# Altium footprint library Connector_Samtec_HLE_SMD.PcbLib: 290 footprints (part 10 of 24)
Each footprint in its own frame and in the unit in brackets; x right, y up, seen from the top. Pads: shape width x height; smd on the part's side, far side on the other; paste and mask are expansions set on the pad; w line width, h text height; cw(c..) or ccw(c..) is an arc to the next point about the centre after c.
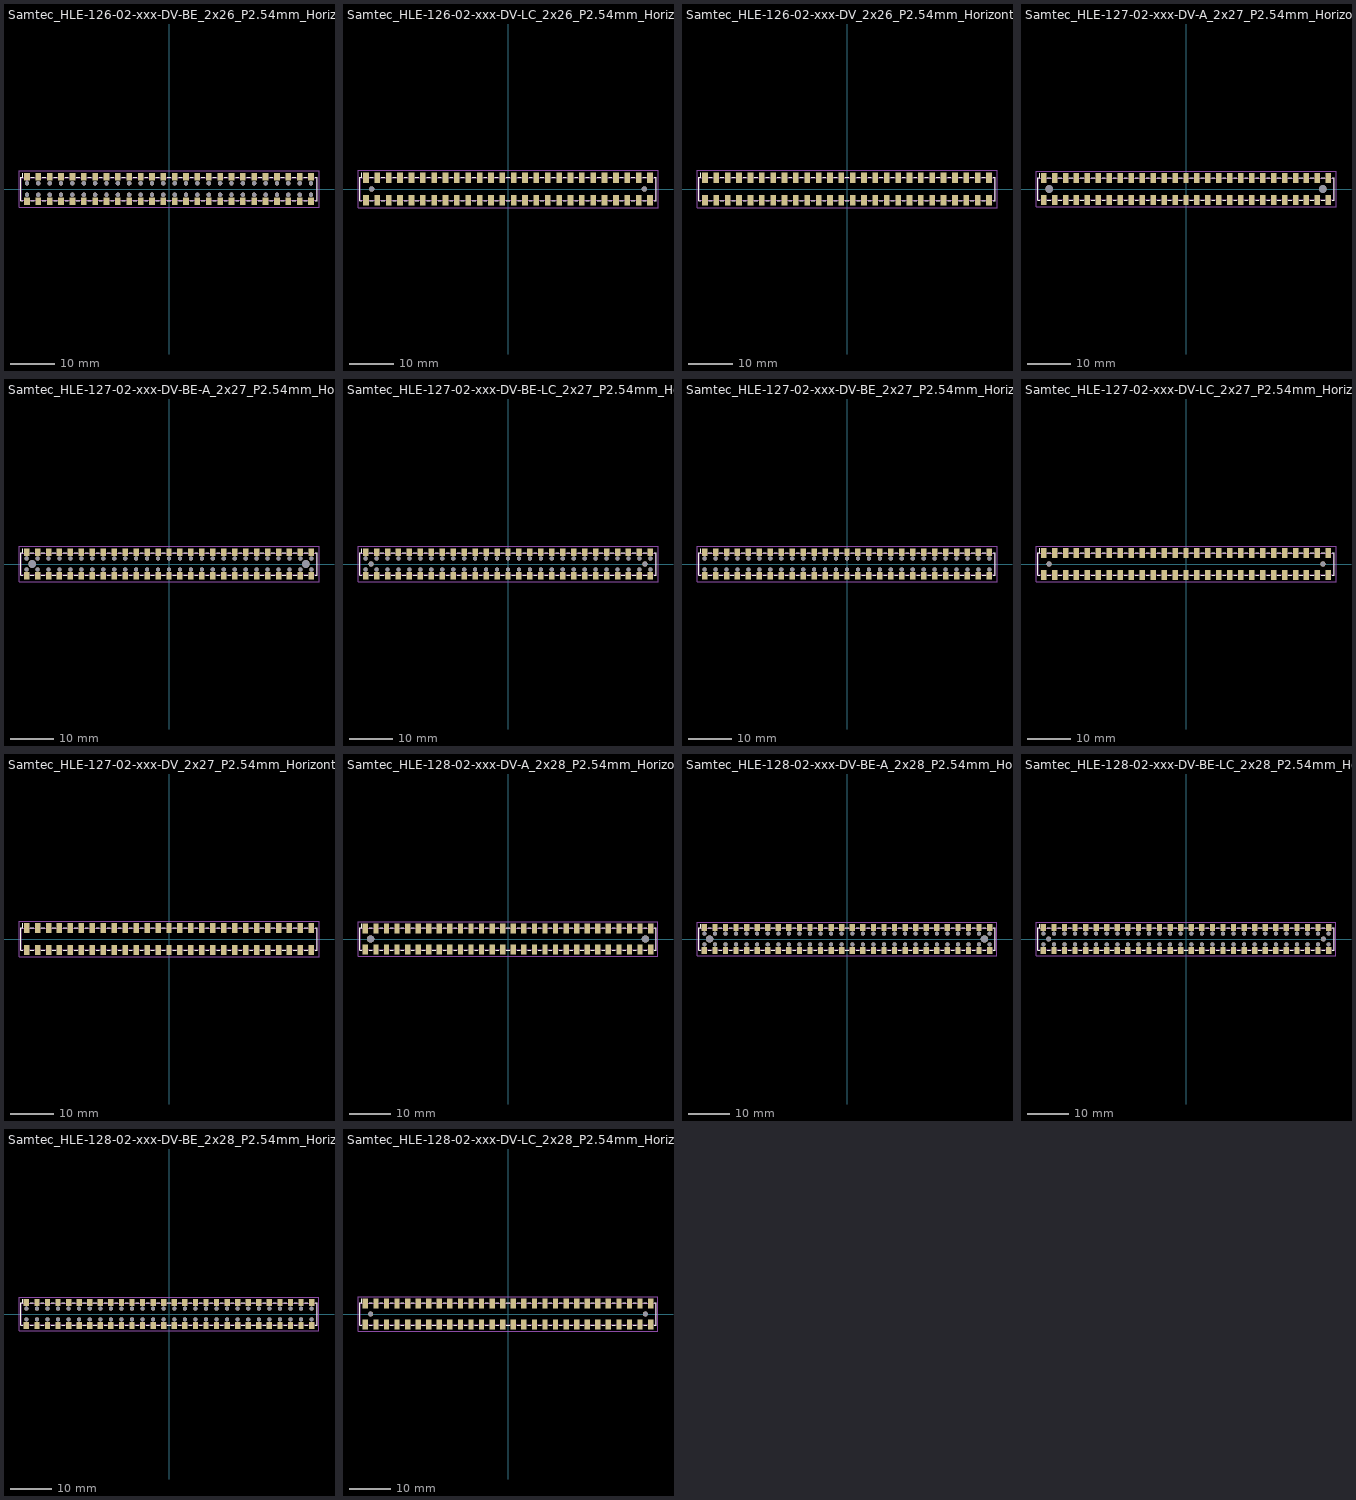
[diagram p9: the footprints below, top view; thin cyan lines are the x and y axes]

## Samtec_HLE-126-02-xxx-DV-BE_2x26_P2.54mm_Horizontal [mm]
pads (104):
  rect 1.27x1.68 smd: 1(-31.75,2.72) 2(-31.75,-2.72) 3(-29.21,2.72) 4(-29.21,-2.72) 5(-26.67,2.72) 6(-26.67,-2.72) 7(-24.13,2.72) 8(-24.13,-2.72) 9(-21.59,2.72) 10(-21.59,-2.72) 11(-19.05,2.72) 12(-19.05,-2.72) 13(-16.51,2.72) 14(-16.51,-2.72) 15(-13.97,2.72) 16(-13.97,-2.72) 17(-11.43,2.72) 18(-11.43,-2.72) 19(-8.89,2.72) 20(-8.89,-2.72) 21(-6.35,2.72) 22(-6.35,-2.72) 23(-3.81,2.72) 24(-3.81,-2.72) 25(-1.27,2.72) 26(-1.27,-2.72) 27(1.27,2.72) 28(1.27,-2.72) 29(3.81,2.72) 30(3.81,-2.72) 31(6.35,2.72) 32(6.35,-2.72) 33(8.89,2.72) 34(8.89,-2.72) 35(11.43,2.72) 36(11.43,-2.72) 37(13.97,2.72) 38(13.97,-2.72) 39(16.51,2.72) 40(16.51,-2.72) 41(19.05,2.72) 42(19.05,-2.72) 43(21.59,2.72) 44(21.59,-2.72) 45(24.13,2.72) 46(24.13,-2.72) 47(26.67,2.72) 48(26.67,-2.72) 49(29.21,2.72) 50(29.21,-2.72) 51(31.75,2.72) 52(31.75,-2.72)
  round 0.97 hole 0.97: Un1(-31.75,1.27) Un2(-31.75,-1.27) Un3(-29.21,1.27) Un4(-29.21,-1.27) Un5(-26.67,1.27) Un6(-26.67,-1.27) Un7(-24.13,1.27) Un8(-24.13,-1.27) Un9(-21.59,1.27) Un10(-21.59,-1.27) Un11(-19.05,1.27) Un12(-19.05,-1.27) Un13(-16.51,1.27) Un14(-16.51,-1.27) Un15(-13.97,1.27) Un16(-13.97,-1.27) Un17(-11.43,1.27) Un18(-11.43,-1.27) Un19(-8.89,1.27) Un20(-8.89,-1.27) Un21(-6.35,1.27) Un22(-6.35,-1.27) Un23(-3.81,1.27) Un24(-3.81,-1.27) Un25(-1.27,1.27) Un26(-1.27,-1.27) Un27(1.27,1.27) Un28(1.27,-1.27) Un29(3.81,1.27) Un30(3.81,-1.27) Un31(6.35,1.27) Un32(6.35,-1.27) Un33(8.89,1.27) Un34(8.89,-1.27) Un35(11.43,1.27) Un36(11.43,-1.27) Un37(13.97,1.27) Un38(13.97,-1.27) Un39(16.51,1.27) Un40(16.51,-1.27) Un41(19.05,1.27) Un42(19.05,-1.27) Un43(21.59,1.27) Un44(21.59,-1.27) Un45(24.13,1.27) Un46(24.13,-1.27) Un47(26.67,1.27) Un48(26.67,-1.27) Un49(29.21,1.27) Un50(29.21,-1.27) Un51(31.75,1.27) Un52(31.75,-1.27)
F.SilkS:
  lines w0.254: -32.645,-2.65 -33.13,-2.65 -33.13,2.65 -32.645,2.65 -32.645,3.56 ; -30.855,-2.65 -30.105,-2.65 ; -30.855,2.65 -30.105,2.65 ; -28.315,-2.65 -27.565,-2.65 ; -28.315,2.65 -27.565,2.65 ; -25.775,-2.65 -25.025,-2.65 ; -25.775,2.65 -25.025,2.65 ; -23.235,-2.65 -22.485,-2.65 ; -23.235,2.65 -22.485,2.65 ; -20.695,-2.65 -19.945,-2.65 ; -20.695,2.65 -19.945,2.65 ; -18.155,-2.65 -17.405,-2.65 ; -18.155,2.65 -17.405,2.65 ; -15.615,-2.65 -14.865,-2.65 ; -15.615,2.65 -14.865,2.65 ; -13.075,-2.65 -12.325,-2.65 ; -13.075,2.65 -12.325,2.65 ; -10.535,-2.65 -9.785,-2.65 ; -10.535,2.65 -9.785,2.65 ; -7.995,-2.65 -7.245,-2.65 ; -7.995,2.65 -7.245,2.65 ; -5.455,-2.65 -4.705,-2.65 ; -5.455,2.65 -4.705,2.65 ; -2.915,-2.65 -2.165,-2.65 ; -2.915,2.65 -2.165,2.65 ; -0.375,-2.65 0.375,-2.65 ; -0.375,2.65 0.375,2.65 ; 2.165,-2.65 2.915,-2.65 ; 2.165,2.65 2.915,2.65 ; 4.705,-2.65 5.455,-2.65 ; 4.705,2.65 5.455,2.65 ; 7.245,-2.65 7.995,-2.65 ; 7.245,2.65 7.995,2.65 ; 9.785,-2.65 10.535,-2.65 ; 9.785,2.65 10.535,2.65 ; 12.325,-2.65 13.075,-2.65 ; 12.325,2.65 13.075,2.65 ; 14.865,-2.65 15.615,-2.65 ; 14.865,2.65 15.615,2.65 ; 17.405,-2.65 18.155,-2.65 ; 17.405,2.65 18.155,2.65 ; 19.945,-2.65 20.695,-2.65 ; 19.945,2.65 20.695,2.65 ; 22.485,-2.65 23.235,-2.65 ; 22.485,2.65 23.235,2.65 ; 25.025,-2.65 25.775,-2.65 ; 25.025,2.65 25.775,2.65 ; 27.565,-2.65 28.315,-2.65 ; 27.565,2.65 28.315,2.65 ; 30.105,-2.65 30.855,-2.65 ; 30.105,2.65 30.855,2.65 ; 32.645,-2.65 33.13,-2.65 33.13,2.65 32.645,2.65
Top Assembly:
  lines w0.254: -32.25,2.54 -31.75,1.833 -31.25,2.54 ; -33.02,-2.54 33.02,-2.54 33.02,2.54 -33.02,2.54 -33.02,-2.54
  text "'.Designator'" at -4.047,-2.68 h1
Top Courtyard:
  lines w0.254: -33.53,-4.07 33.53,-4.07 33.53,4.07 -33.53,4.07 -33.53,-4.07
Top Designator:
  text ".Designator" at -7.618,-0.508 h1.52

## Samtec_HLE-126-02-xxx-DV-LC_2x26_P2.54mm_Horizontal [mm]
pads (54):
  rect 1.27x2.29 smd: 1(-31.75,2.525) 2(-31.75,-2.525) 3(-29.21,2.525) 4(-29.21,-2.525) 5(-26.67,2.525) 6(-26.67,-2.525) 7(-24.13,2.525) 8(-24.13,-2.525) 9(-21.59,2.525) 10(-21.59,-2.525) 11(-19.05,2.525) 12(-19.05,-2.525) 13(-16.51,2.525) 14(-16.51,-2.525) 15(-13.97,2.525) 16(-13.97,-2.525) 17(-11.43,2.525) 18(-11.43,-2.525) 19(-8.89,2.525) 20(-8.89,-2.525) 21(-6.35,2.525) 22(-6.35,-2.525) 23(-3.81,2.525) 24(-3.81,-2.525) 25(-1.27,2.525) 26(-1.27,-2.525) 27(1.27,2.525) 28(1.27,-2.525) 29(3.81,2.525) 30(3.81,-2.525) 31(6.35,2.525) 32(6.35,-2.525) 33(8.89,2.525) 34(8.89,-2.525) 35(11.43,2.525) 36(11.43,-2.525) 37(13.97,2.525) 38(13.97,-2.525) 39(16.51,2.525) 40(16.51,-2.525) 41(19.05,2.525) 42(19.05,-2.525) 43(21.59,2.525) 44(21.59,-2.525) 45(24.13,2.525) 46(24.13,-2.525) 47(26.67,2.525) 48(26.67,-2.525) 49(29.21,2.525) 50(29.21,-2.525) 51(31.75,2.525) 52(31.75,-2.525)
  round 1.19 hole 1.19: Un1(-30.48,0) Un2(30.48,0)
F.SilkS:
  lines w0.254: -32.645,-2.65 -33.13,-2.65 -33.13,2.65 -32.645,2.65 -32.645,3.67 ; -30.855,-2.65 -30.105,-2.65 ; -30.855,2.65 -30.105,2.65 ; -28.315,-2.65 -27.565,-2.65 ; -28.315,2.65 -27.565,2.65 ; -25.775,-2.65 -25.025,-2.65 ; -25.775,2.65 -25.025,2.65 ; -23.235,-2.65 -22.485,-2.65 ; -23.235,2.65 -22.485,2.65 ; -20.695,-2.65 -19.945,-2.65 ; -20.695,2.65 -19.945,2.65 ; -18.155,-2.65 -17.405,-2.65 ; -18.155,2.65 -17.405,2.65 ; -15.615,-2.65 -14.865,-2.65 ; -15.615,2.65 -14.865,2.65 ; -13.075,-2.65 -12.325,-2.65 ; -13.075,2.65 -12.325,2.65 ; -10.535,-2.65 -9.785,-2.65 ; -10.535,2.65 -9.785,2.65 ; -7.995,-2.65 -7.245,-2.65 ; -7.995,2.65 -7.245,2.65 ; -5.455,-2.65 -4.705,-2.65 ; -5.455,2.65 -4.705,2.65 ; -2.915,-2.65 -2.165,-2.65 ; -2.915,2.65 -2.165,2.65 ; -0.375,-2.65 0.375,-2.65 ; -0.375,2.65 0.375,2.65 ; 2.165,-2.65 2.915,-2.65 ; 2.165,2.65 2.915,2.65 ; 4.705,-2.65 5.455,-2.65 ; 4.705,2.65 5.455,2.65 ; 7.245,-2.65 7.995,-2.65 ; 7.245,2.65 7.995,2.65 ; 9.785,-2.65 10.535,-2.65 ; 9.785,2.65 10.535,2.65 ; 12.325,-2.65 13.075,-2.65 ; 12.325,2.65 13.075,2.65 ; 14.865,-2.65 15.615,-2.65 ; 14.865,2.65 15.615,2.65 ; 17.405,-2.65 18.155,-2.65 ; 17.405,2.65 18.155,2.65 ; 19.945,-2.65 20.695,-2.65 ; 19.945,2.65 20.695,2.65 ; 22.485,-2.65 23.235,-2.65 ; 22.485,2.65 23.235,2.65 ; 25.025,-2.65 25.775,-2.65 ; 25.025,2.65 25.775,2.65 ; 27.565,-2.65 28.315,-2.65 ; 27.565,2.65 28.315,2.65 ; 30.105,-2.65 30.855,-2.65 ; 30.105,2.65 30.855,2.65 ; 32.645,-2.65 33.13,-2.65 33.13,2.65 32.645,2.65
Top Assembly:
  lines w0.254: -32.25,2.54 -31.75,1.833 -31.25,2.54 ; -33.02,-2.54 33.02,-2.54 33.02,2.54 -33.02,2.54 -33.02,-2.54
  text "'.Designator'" at -4.047,-2.68 h1
Top Courtyard:
  lines w0.254: -33.53,-4.17 33.53,-4.17 33.53,4.17 -33.53,4.17 -33.53,-4.17
Top Designator:
  text ".Designator" at -7.618,-0.508 h1.52

## Samtec_HLE-126-02-xxx-DV_2x26_P2.54mm_Horizontal [mm]
pads (52):
  rect 1.27x2.29 smd: 1(-31.75,2.525) 2(-31.75,-2.525) 3(-29.21,2.525) 4(-29.21,-2.525) 5(-26.67,2.525) 6(-26.67,-2.525) 7(-24.13,2.525) 8(-24.13,-2.525) 9(-21.59,2.525) 10(-21.59,-2.525) 11(-19.05,2.525) 12(-19.05,-2.525) 13(-16.51,2.525) 14(-16.51,-2.525) 15(-13.97,2.525) 16(-13.97,-2.525) 17(-11.43,2.525) 18(-11.43,-2.525) 19(-8.89,2.525) 20(-8.89,-2.525) 21(-6.35,2.525) 22(-6.35,-2.525) 23(-3.81,2.525) 24(-3.81,-2.525) 25(-1.27,2.525) 26(-1.27,-2.525) 27(1.27,2.525) 28(1.27,-2.525) 29(3.81,2.525) 30(3.81,-2.525) 31(6.35,2.525) 32(6.35,-2.525) 33(8.89,2.525) 34(8.89,-2.525) 35(11.43,2.525) 36(11.43,-2.525) 37(13.97,2.525) 38(13.97,-2.525) 39(16.51,2.525) 40(16.51,-2.525) 41(19.05,2.525) 42(19.05,-2.525) 43(21.59,2.525) 44(21.59,-2.525) 45(24.13,2.525) 46(24.13,-2.525) 47(26.67,2.525) 48(26.67,-2.525) 49(29.21,2.525) 50(29.21,-2.525) 51(31.75,2.525) 52(31.75,-2.525)
F.SilkS:
  lines w0.254: -32.645,-2.65 -33.13,-2.65 -33.13,2.65 -32.645,2.65 -32.645,3.67 ; -30.855,-2.65 -30.105,-2.65 ; -30.855,2.65 -30.105,2.65 ; -28.315,-2.65 -27.565,-2.65 ; -28.315,2.65 -27.565,2.65 ; -25.775,-2.65 -25.025,-2.65 ; -25.775,2.65 -25.025,2.65 ; -23.235,-2.65 -22.485,-2.65 ; -23.235,2.65 -22.485,2.65 ; -20.695,-2.65 -19.945,-2.65 ; -20.695,2.65 -19.945,2.65 ; -18.155,-2.65 -17.405,-2.65 ; -18.155,2.65 -17.405,2.65 ; -15.615,-2.65 -14.865,-2.65 ; -15.615,2.65 -14.865,2.65 ; -13.075,-2.65 -12.325,-2.65 ; -13.075,2.65 -12.325,2.65 ; -10.535,-2.65 -9.785,-2.65 ; -10.535,2.65 -9.785,2.65 ; -7.995,-2.65 -7.245,-2.65 ; -7.995,2.65 -7.245,2.65 ; -5.455,-2.65 -4.705,-2.65 ; -5.455,2.65 -4.705,2.65 ; -2.915,-2.65 -2.165,-2.65 ; -2.915,2.65 -2.165,2.65 ; -0.375,-2.65 0.375,-2.65 ; -0.375,2.65 0.375,2.65 ; 2.165,-2.65 2.915,-2.65 ; 2.165,2.65 2.915,2.65 ; 4.705,-2.65 5.455,-2.65 ; 4.705,2.65 5.455,2.65 ; 7.245,-2.65 7.995,-2.65 ; 7.245,2.65 7.995,2.65 ; 9.785,-2.65 10.535,-2.65 ; 9.785,2.65 10.535,2.65 ; 12.325,-2.65 13.075,-2.65 ; 12.325,2.65 13.075,2.65 ; 14.865,-2.65 15.615,-2.65 ; 14.865,2.65 15.615,2.65 ; 17.405,-2.65 18.155,-2.65 ; 17.405,2.65 18.155,2.65 ; 19.945,-2.65 20.695,-2.65 ; 19.945,2.65 20.695,2.65 ; 22.485,-2.65 23.235,-2.65 ; 22.485,2.65 23.235,2.65 ; 25.025,-2.65 25.775,-2.65 ; 25.025,2.65 25.775,2.65 ; 27.565,-2.65 28.315,-2.65 ; 27.565,2.65 28.315,2.65 ; 30.105,-2.65 30.855,-2.65 ; 30.105,2.65 30.855,2.65 ; 32.645,-2.65 33.13,-2.65 33.13,2.65 32.645,2.65
Top Assembly:
  lines w0.254: -32.25,2.54 -31.75,1.833 -31.25,2.54 ; -33.02,-2.54 33.02,-2.54 33.02,2.54 -33.02,2.54 -33.02,-2.54
  text "'.Designator'" at -4.047,-2.68 h1
Top Courtyard:
  lines w0.254: -33.53,-4.17 33.53,-4.17 33.53,4.17 -33.53,4.17 -33.53,-4.17
Top Designator:
  text ".Designator" at -7.618,-0.508 h1.52

## Samtec_HLE-127-02-xxx-DV-A_2x27_P2.54mm_Horizontal [mm]
pads (56):
  rect 1.27x2.29 smd: 1(-33.02,2.525) 2(-33.02,-2.525) 3(-30.48,2.525) 4(-30.48,-2.525) 5(-27.94,2.525) 6(-27.94,-2.525) 7(-25.4,2.525) 8(-25.4,-2.525) 9(-22.86,2.525) 10(-22.86,-2.525) 11(-20.32,2.525) 12(-20.32,-2.525) 13(-17.78,2.525) 14(-17.78,-2.525) 15(-15.24,2.525) 16(-15.24,-2.525) 17(-12.7,2.525) 18(-12.7,-2.525) 19(-10.16,2.525) 20(-10.16,-2.525) 21(-7.62,2.525) 22(-7.62,-2.525) 23(-5.08,2.525) 24(-5.08,-2.525) 25(-2.54,2.525) 26(-2.54,-2.525) 27(0,2.525) 28(0,-2.525) 29(2.54,2.525) 30(2.54,-2.525) 31(5.08,2.525) 32(5.08,-2.525) 33(7.62,2.525) 34(7.62,-2.525) 35(10.16,2.525) 36(10.16,-2.525) 37(12.7,2.525) 38(12.7,-2.525) 39(15.24,2.525) 40(15.24,-2.525) 41(17.78,2.525) 42(17.78,-2.525) 43(20.32,2.525) 44(20.32,-2.525) 45(22.86,2.525) 46(22.86,-2.525) 47(25.4,2.525) 48(25.4,-2.525) 49(27.94,2.525) 50(27.94,-2.525) 51(30.48,2.525) 52(30.48,-2.525) 53(33.02,2.525) 54(33.02,-2.525)
  round 1.78 hole 1.78: Un1(-31.75,0) Un2(31.75,0)
F.SilkS:
  lines w0.254: -33.915,-2.65 -34.4,-2.65 -34.4,2.65 -33.915,2.65 -33.915,3.67 ; -32.125,-2.65 -31.375,-2.65 ; -32.125,2.65 -31.375,2.65 ; -29.585,-2.65 -28.835,-2.65 ; -29.585,2.65 -28.835,2.65 ; -27.045,-2.65 -26.295,-2.65 ; -27.045,2.65 -26.295,2.65 ; -24.505,-2.65 -23.755,-2.65 ; -24.505,2.65 -23.755,2.65 ; -21.965,-2.65 -21.215,-2.65 ; -21.965,2.65 -21.215,2.65 ; -19.425,-2.65 -18.675,-2.65 ; -19.425,2.65 -18.675,2.65 ; -16.885,-2.65 -16.135,-2.65 ; -16.885,2.65 -16.135,2.65 ; -14.345,-2.65 -13.595,-2.65 ; -14.345,2.65 -13.595,2.65 ; -11.805,-2.65 -11.055,-2.65 ; -11.805,2.65 -11.055,2.65 ; -9.265,-2.65 -8.515,-2.65 ; -9.265,2.65 -8.515,2.65 ; -6.725,-2.65 -5.975,-2.65 ; -6.725,2.65 -5.975,2.65 ; -4.185,-2.65 -3.435,-2.65 ; -4.185,2.65 -3.435,2.65 ; -1.645,-2.65 -0.895,-2.65 ; -1.645,2.65 -0.895,2.65 ; 0.895,-2.65 1.645,-2.65 ; 0.895,2.65 1.645,2.65 ; 3.435,-2.65 4.185,-2.65 ; 3.435,2.65 4.185,2.65 ; 5.975,-2.65 6.725,-2.65 ; 5.975,2.65 6.725,2.65 ; 8.515,-2.65 9.265,-2.65 ; 8.515,2.65 9.265,2.65 ; 11.055,-2.65 11.805,-2.65 ; 11.055,2.65 11.805,2.65 ; 13.595,-2.65 14.345,-2.65 ; 13.595,2.65 14.345,2.65 ; 16.135,-2.65 16.885,-2.65 ; 16.135,2.65 16.885,2.65 ; 18.675,-2.65 19.425,-2.65 ; 18.675,2.65 19.425,2.65 ; 21.215,-2.65 21.965,-2.65 ; 21.215,2.65 21.965,2.65 ; 23.755,-2.65 24.505,-2.65 ; 23.755,2.65 24.505,2.65 ; 26.295,-2.65 27.045,-2.65 ; 26.295,2.65 27.045,2.65 ; 28.835,-2.65 29.585,-2.65 ; 28.835,2.65 29.585,2.65 ; 31.375,-2.65 32.125,-2.65 ; 31.375,2.65 32.125,2.65 ; 33.915,-2.65 34.4,-2.65 34.4,2.65 33.915,2.65
Top Assembly:
  lines w0.254: -33.52,2.54 -33.02,1.833 -32.52,2.54 ; -34.29,-2.54 34.29,-2.54 34.29,2.54 -34.29,2.54 -34.29,-2.54
  text "'.Designator'" at -4.047,-2.68 h1
Top Courtyard:
  lines w0.254: -34.79,-4.17 34.79,-4.17 34.79,4.17 -34.79,4.17 -34.79,-4.17
Top Designator:
  text ".Designator" at -7.618,-0.508 h1.52

## Samtec_HLE-127-02-xxx-DV-BE-A_2x27_P2.54mm_Horizontal [mm]
pads (110):
  rect 1.27x1.68 smd: 1(-33.02,2.72) 2(-33.02,-2.72) 3(-30.48,2.72) 4(-30.48,-2.72) 5(-27.94,2.72) 6(-27.94,-2.72) 7(-25.4,2.72) 8(-25.4,-2.72) 9(-22.86,2.72) 10(-22.86,-2.72) 11(-20.32,2.72) 12(-20.32,-2.72) 13(-17.78,2.72) 14(-17.78,-2.72) 15(-15.24,2.72) 16(-15.24,-2.72) 17(-12.7,2.72) 18(-12.7,-2.72) 19(-10.16,2.72) 20(-10.16,-2.72) 21(-7.62,2.72) 22(-7.62,-2.72) 23(-5.08,2.72) 24(-5.08,-2.72) 25(-2.54,2.72) 26(-2.54,-2.72) 27(0,2.72) 28(0,-2.72) 29(2.54,2.72) 30(2.54,-2.72) 31(5.08,2.72) 32(5.08,-2.72) 33(7.62,2.72) 34(7.62,-2.72) 35(10.16,2.72) 36(10.16,-2.72) 37(12.7,2.72) 38(12.7,-2.72) 39(15.24,2.72) 40(15.24,-2.72) 41(17.78,2.72) 42(17.78,-2.72) 43(20.32,2.72) 44(20.32,-2.72) 45(22.86,2.72) 46(22.86,-2.72) 47(25.4,2.72) 48(25.4,-2.72) 49(27.94,2.72) 50(27.94,-2.72) 51(30.48,2.72) 52(30.48,-2.72) 53(33.02,2.72) 54(33.02,-2.72)
  round 0.97 hole 0.97: Un1(-33.02,1.27) Un2(-33.02,-1.27) Un4(-30.48,1.27) Un5(-30.48,-1.27) Un6(-27.94,1.27) Un7(-27.94,-1.27) Un8(-25.4,1.27) Un9(-25.4,-1.27) Un10(-22.86,1.27) Un11(-22.86,-1.27) Un12(-20.32,1.27) Un13(-20.32,-1.27) Un14(-17.78,1.27) Un15(-17.78,-1.27) Un16(-15.24,1.27) Un17(-15.24,-1.27) Un18(-12.7,1.27) Un19(-12.7,-1.27) Un20(-10.16,1.27) Un21(-10.16,-1.27) Un22(-7.62,1.27) Un23(-7.62,-1.27) Un24(-5.08,1.27) Un25(-5.08,-1.27) Un26(-2.54,1.27) Un27(-2.54,-1.27) Un28(0,1.27) Un29(0,-1.27) Un30(2.54,1.27) Un31(2.54,-1.27) Un32(5.08,1.27) Un33(5.08,-1.27) Un34(7.62,1.27) Un35(7.62,-1.27) Un36(10.16,1.27) Un37(10.16,-1.27) Un38(12.7,1.27) Un39(12.7,-1.27) Un40(15.24,1.27) Un41(15.24,-1.27) Un42(17.78,1.27) Un43(17.78,-1.27) Un44(20.32,1.27) Un45(20.32,-1.27) Un46(22.86,1.27) Un47(22.86,-1.27) Un48(25.4,1.27) Un49(25.4,-1.27) Un50(27.94,1.27) Un51(27.94,-1.27) Un52(30.48,1.27) Un53(30.48,-1.27) Un55(33.02,1.27) Un56(33.02,-1.27)
  round 1.78 hole 1.78: Un3(-31.75,0) Un54(31.75,0)
F.SilkS:
  lines w0.254: -33.915,-2.65 -34.4,-2.65 -34.4,2.65 -33.915,2.65 -33.915,3.56 ; -32.125,-2.65 -31.375,-2.65 ; -32.125,2.65 -31.375,2.65 ; -29.585,-2.65 -28.835,-2.65 ; -29.585,2.65 -28.835,2.65 ; -27.045,-2.65 -26.295,-2.65 ; -27.045,2.65 -26.295,2.65 ; -24.505,-2.65 -23.755,-2.65 ; -24.505,2.65 -23.755,2.65 ; -21.965,-2.65 -21.215,-2.65 ; -21.965,2.65 -21.215,2.65 ; -19.425,-2.65 -18.675,-2.65 ; -19.425,2.65 -18.675,2.65 ; -16.885,-2.65 -16.135,-2.65 ; -16.885,2.65 -16.135,2.65 ; -14.345,-2.65 -13.595,-2.65 ; -14.345,2.65 -13.595,2.65 ; -11.805,-2.65 -11.055,-2.65 ; -11.805,2.65 -11.055,2.65 ; -9.265,-2.65 -8.515,-2.65 ; -9.265,2.65 -8.515,2.65 ; -6.725,-2.65 -5.975,-2.65 ; -6.725,2.65 -5.975,2.65 ; -4.185,-2.65 -3.435,-2.65 ; -4.185,2.65 -3.435,2.65 ; -1.645,-2.65 -0.895,-2.65 ; -1.645,2.65 -0.895,2.65 ; 0.895,-2.65 1.645,-2.65 ; 0.895,2.65 1.645,2.65 ; 3.435,-2.65 4.185,-2.65 ; 3.435,2.65 4.185,2.65 ; 5.975,-2.65 6.725,-2.65 ; 5.975,2.65 6.725,2.65 ; 8.515,-2.65 9.265,-2.65 ; 8.515,2.65 9.265,2.65 ; 11.055,-2.65 11.805,-2.65 ; 11.055,2.65 11.805,2.65 ; 13.595,-2.65 14.345,-2.65 ; 13.595,2.65 14.345,2.65 ; 16.135,-2.65 16.885,-2.65 ; 16.135,2.65 16.885,2.65 ; 18.675,-2.65 19.425,-2.65 ; 18.675,2.65 19.425,2.65 ; 21.215,-2.65 21.965,-2.65 ; 21.215,2.65 21.965,2.65 ; 23.755,-2.65 24.505,-2.65 ; 23.755,2.65 24.505,2.65 ; 26.295,-2.65 27.045,-2.65 ; 26.295,2.65 27.045,2.65 ; 28.835,-2.65 29.585,-2.65 ; 28.835,2.65 29.585,2.65 ; 31.375,-2.65 32.125,-2.65 ; 31.375,2.65 32.125,2.65 ; 33.915,-2.65 34.4,-2.65 34.4,2.65 33.915,2.65
Top Assembly:
  lines w0.254: -33.52,2.54 -33.02,1.833 -32.52,2.54 ; -34.29,-2.54 34.29,-2.54 34.29,2.54 -34.29,2.54 -34.29,-2.54
  text "'.Designator'" at -4.047,-2.68 h1
Top Courtyard:
  lines w0.254: -34.79,-4.07 34.79,-4.07 34.79,4.07 -34.79,4.07 -34.79,-4.07
Top Designator:
  text ".Designator" at -7.618,-0.508 h1.52

## Samtec_HLE-127-02-xxx-DV-BE-LC_2x27_P2.54mm_Horizontal [mm]
pads (110):
  rect 1.27x1.68 smd: 1(-33.02,2.72) 2(-33.02,-2.72) 3(-30.48,2.72) 4(-30.48,-2.72) 5(-27.94,2.72) 6(-27.94,-2.72) 7(-25.4,2.72) 8(-25.4,-2.72) 9(-22.86,2.72) 10(-22.86,-2.72) 11(-20.32,2.72) 12(-20.32,-2.72) 13(-17.78,2.72) 14(-17.78,-2.72) 15(-15.24,2.72) 16(-15.24,-2.72) 17(-12.7,2.72) 18(-12.7,-2.72) 19(-10.16,2.72) 20(-10.16,-2.72) 21(-7.62,2.72) 22(-7.62,-2.72) 23(-5.08,2.72) 24(-5.08,-2.72) 25(-2.54,2.72) 26(-2.54,-2.72) 27(0,2.72) 28(0,-2.72) 29(2.54,2.72) 30(2.54,-2.72) 31(5.08,2.72) 32(5.08,-2.72) 33(7.62,2.72) 34(7.62,-2.72) 35(10.16,2.72) 36(10.16,-2.72) 37(12.7,2.72) 38(12.7,-2.72) 39(15.24,2.72) 40(15.24,-2.72) 41(17.78,2.72) 42(17.78,-2.72) 43(20.32,2.72) 44(20.32,-2.72) 45(22.86,2.72) 46(22.86,-2.72) 47(25.4,2.72) 48(25.4,-2.72) 49(27.94,2.72) 50(27.94,-2.72) 51(30.48,2.72) 52(30.48,-2.72) 53(33.02,2.72) 54(33.02,-2.72)
  round 0.97 hole 0.97: Un1(-33.02,1.27) Un2(-33.02,-1.27) Un4(-30.48,1.27) Un5(-30.48,-1.27) Un6(-27.94,1.27) Un7(-27.94,-1.27) Un8(-25.4,1.27) Un9(-25.4,-1.27) Un10(-22.86,1.27) Un11(-22.86,-1.27) Un12(-20.32,1.27) Un13(-20.32,-1.27) Un14(-17.78,1.27) Un15(-17.78,-1.27) Un16(-15.24,1.27) Un17(-15.24,-1.27) Un18(-12.7,1.27) Un19(-12.7,-1.27) Un20(-10.16,1.27) Un21(-10.16,-1.27) Un22(-7.62,1.27) Un23(-7.62,-1.27) Un24(-5.08,1.27) Un25(-5.08,-1.27) Un26(-2.54,1.27) Un27(-2.54,-1.27) Un28(0,1.27) Un29(0,-1.27) Un30(2.54,1.27) Un31(2.54,-1.27) Un32(5.08,1.27) Un33(5.08,-1.27) Un34(7.62,1.27) Un35(7.62,-1.27) Un36(10.16,1.27) Un37(10.16,-1.27) Un38(12.7,1.27) Un39(12.7,-1.27) Un40(15.24,1.27) Un41(15.24,-1.27) Un42(17.78,1.27) Un43(17.78,-1.27) Un44(20.32,1.27) Un45(20.32,-1.27) Un46(22.86,1.27) Un47(22.86,-1.27) Un48(25.4,1.27) Un49(25.4,-1.27) Un50(27.94,1.27) Un51(27.94,-1.27) Un52(30.48,1.27) Un53(30.48,-1.27) Un55(33.02,1.27) Un56(33.02,-1.27)
  round 1.19 hole 1.19: Un3(-31.75,0) Un54(31.75,0)
F.SilkS:
  lines w0.254: -33.915,-2.65 -34.4,-2.65 -34.4,2.65 -33.915,2.65 -33.915,3.56 ; -32.125,-2.65 -31.375,-2.65 ; -32.125,2.65 -31.375,2.65 ; -29.585,-2.65 -28.835,-2.65 ; -29.585,2.65 -28.835,2.65 ; -27.045,-2.65 -26.295,-2.65 ; -27.045,2.65 -26.295,2.65 ; -24.505,-2.65 -23.755,-2.65 ; -24.505,2.65 -23.755,2.65 ; -21.965,-2.65 -21.215,-2.65 ; -21.965,2.65 -21.215,2.65 ; -19.425,-2.65 -18.675,-2.65 ; -19.425,2.65 -18.675,2.65 ; -16.885,-2.65 -16.135,-2.65 ; -16.885,2.65 -16.135,2.65 ; -14.345,-2.65 -13.595,-2.65 ; -14.345,2.65 -13.595,2.65 ; -11.805,-2.65 -11.055,-2.65 ; -11.805,2.65 -11.055,2.65 ; -9.265,-2.65 -8.515,-2.65 ; -9.265,2.65 -8.515,2.65 ; -6.725,-2.65 -5.975,-2.65 ; -6.725,2.65 -5.975,2.65 ; -4.185,-2.65 -3.435,-2.65 ; -4.185,2.65 -3.435,2.65 ; -1.645,-2.65 -0.895,-2.65 ; -1.645,2.65 -0.895,2.65 ; 0.895,-2.65 1.645,-2.65 ; 0.895,2.65 1.645,2.65 ; 3.435,-2.65 4.185,-2.65 ; 3.435,2.65 4.185,2.65 ; 5.975,-2.65 6.725,-2.65 ; 5.975,2.65 6.725,2.65 ; 8.515,-2.65 9.265,-2.65 ; 8.515,2.65 9.265,2.65 ; 11.055,-2.65 11.805,-2.65 ; 11.055,2.65 11.805,2.65 ; 13.595,-2.65 14.345,-2.65 ; 13.595,2.65 14.345,2.65 ; 16.135,-2.65 16.885,-2.65 ; 16.135,2.65 16.885,2.65 ; 18.675,-2.65 19.425,-2.65 ; 18.675,2.65 19.425,2.65 ; 21.215,-2.65 21.965,-2.65 ; 21.215,2.65 21.965,2.65 ; 23.755,-2.65 24.505,-2.65 ; 23.755,2.65 24.505,2.65 ; 26.295,-2.65 27.045,-2.65 ; 26.295,2.65 27.045,2.65 ; 28.835,-2.65 29.585,-2.65 ; 28.835,2.65 29.585,2.65 ; 31.375,-2.65 32.125,-2.65 ; 31.375,2.65 32.125,2.65 ; 33.915,-2.65 34.4,-2.65 34.4,2.65 33.915,2.65
Top Assembly:
  lines w0.254: -33.52,2.54 -33.02,1.833 -32.52,2.54 ; -34.29,-2.54 34.29,-2.54 34.29,2.54 -34.29,2.54 -34.29,-2.54
  text "'.Designator'" at -4.047,-2.68 h1
Top Courtyard:
  lines w0.254: -34.79,-4.07 34.79,-4.07 34.79,4.07 -34.79,4.07 -34.79,-4.07
Top Designator:
  text ".Designator" at -7.618,-0.508 h1.52

## Samtec_HLE-127-02-xxx-DV-BE_2x27_P2.54mm_Horizontal [mm]
pads (108):
  rect 1.27x1.68 smd: 1(-33.02,2.72) 2(-33.02,-2.72) 3(-30.48,2.72) 4(-30.48,-2.72) 5(-27.94,2.72) 6(-27.94,-2.72) 7(-25.4,2.72) 8(-25.4,-2.72) 9(-22.86,2.72) 10(-22.86,-2.72) 11(-20.32,2.72) 12(-20.32,-2.72) 13(-17.78,2.72) 14(-17.78,-2.72) 15(-15.24,2.72) 16(-15.24,-2.72) 17(-12.7,2.72) 18(-12.7,-2.72) 19(-10.16,2.72) 20(-10.16,-2.72) 21(-7.62,2.72) 22(-7.62,-2.72) 23(-5.08,2.72) 24(-5.08,-2.72) 25(-2.54,2.72) 26(-2.54,-2.72) 27(0,2.72) 28(0,-2.72) 29(2.54,2.72) 30(2.54,-2.72) 31(5.08,2.72) 32(5.08,-2.72) 33(7.62,2.72) 34(7.62,-2.72) 35(10.16,2.72) 36(10.16,-2.72) 37(12.7,2.72) 38(12.7,-2.72) 39(15.24,2.72) 40(15.24,-2.72) 41(17.78,2.72) 42(17.78,-2.72) 43(20.32,2.72) 44(20.32,-2.72) 45(22.86,2.72) 46(22.86,-2.72) 47(25.4,2.72) 48(25.4,-2.72) 49(27.94,2.72) 50(27.94,-2.72) 51(30.48,2.72) 52(30.48,-2.72) 53(33.02,2.72) 54(33.02,-2.72)
  round 0.97 hole 0.97: Un1(-33.02,1.27) Un2(-33.02,-1.27) Un3(-30.48,1.27) Un4(-30.48,-1.27) Un5(-27.94,1.27) Un6(-27.94,-1.27) Un7(-25.4,1.27) Un8(-25.4,-1.27) Un9(-22.86,1.27) Un10(-22.86,-1.27) Un11(-20.32,1.27) Un12(-20.32,-1.27) Un13(-17.78,1.27) Un14(-17.78,-1.27) Un15(-15.24,1.27) Un16(-15.24,-1.27) Un17(-12.7,1.27) Un18(-12.7,-1.27) Un19(-10.16,1.27) Un20(-10.16,-1.27) Un21(-7.62,1.27) Un22(-7.62,-1.27) Un23(-5.08,1.27) Un24(-5.08,-1.27) Un25(-2.54,1.27) Un26(-2.54,-1.27) Un27(0,1.27) Un28(0,-1.27) Un29(2.54,1.27) Un30(2.54,-1.27) Un31(5.08,1.27) Un32(5.08,-1.27) Un33(7.62,1.27) Un34(7.62,-1.27) Un35(10.16,1.27) Un36(10.16,-1.27) Un37(12.7,1.27) Un38(12.7,-1.27) Un39(15.24,1.27) Un40(15.24,-1.27) Un41(17.78,1.27) Un42(17.78,-1.27) Un43(20.32,1.27) Un44(20.32,-1.27) Un45(22.86,1.27) Un46(22.86,-1.27) Un47(25.4,1.27) Un48(25.4,-1.27) Un49(27.94,1.27) Un50(27.94,-1.27) Un51(30.48,1.27) Un52(30.48,-1.27) Un53(33.02,1.27) Un54(33.02,-1.27)
F.SilkS:
  lines w0.254: -33.915,-2.65 -34.4,-2.65 -34.4,2.65 -33.915,2.65 -33.915,3.56 ; -32.125,-2.65 -31.375,-2.65 ; -32.125,2.65 -31.375,2.65 ; -29.585,-2.65 -28.835,-2.65 ; -29.585,2.65 -28.835,2.65 ; -27.045,-2.65 -26.295,-2.65 ; -27.045,2.65 -26.295,2.65 ; -24.505,-2.65 -23.755,-2.65 ; -24.505,2.65 -23.755,2.65 ; -21.965,-2.65 -21.215,-2.65 ; -21.965,2.65 -21.215,2.65 ; -19.425,-2.65 -18.675,-2.65 ; -19.425,2.65 -18.675,2.65 ; -16.885,-2.65 -16.135,-2.65 ; -16.885,2.65 -16.135,2.65 ; -14.345,-2.65 -13.595,-2.65 ; -14.345,2.65 -13.595,2.65 ; -11.805,-2.65 -11.055,-2.65 ; -11.805,2.65 -11.055,2.65 ; -9.265,-2.65 -8.515,-2.65 ; -9.265,2.65 -8.515,2.65 ; -6.725,-2.65 -5.975,-2.65 ; -6.725,2.65 -5.975,2.65 ; -4.185,-2.65 -3.435,-2.65 ; -4.185,2.65 -3.435,2.65 ; -1.645,-2.65 -0.895,-2.65 ; -1.645,2.65 -0.895,2.65 ; 0.895,-2.65 1.645,-2.65 ; 0.895,2.65 1.645,2.65 ; 3.435,-2.65 4.185,-2.65 ; 3.435,2.65 4.185,2.65 ; 5.975,-2.65 6.725,-2.65 ; 5.975,2.65 6.725,2.65 ; 8.515,-2.65 9.265,-2.65 ; 8.515,2.65 9.265,2.65 ; 11.055,-2.65 11.805,-2.65 ; 11.055,2.65 11.805,2.65 ; 13.595,-2.65 14.345,-2.65 ; 13.595,2.65 14.345,2.65 ; 16.135,-2.65 16.885,-2.65 ; 16.135,2.65 16.885,2.65 ; 18.675,-2.65 19.425,-2.65 ; 18.675,2.65 19.425,2.65 ; 21.215,-2.65 21.965,-2.65 ; 21.215,2.65 21.965,2.65 ; 23.755,-2.65 24.505,-2.65 ; 23.755,2.65 24.505,2.65 ; 26.295,-2.65 27.045,-2.65 ; 26.295,2.65 27.045,2.65 ; 28.835,-2.65 29.585,-2.65 ; 28.835,2.65 29.585,2.65 ; 31.375,-2.65 32.125,-2.65 ; 31.375,2.65 32.125,2.65 ; 33.915,-2.65 34.4,-2.65 34.4,2.65 33.915,2.65
Top Assembly:
  lines w0.254: -33.52,2.54 -33.02,1.833 -32.52,2.54 ; -34.29,-2.54 34.29,-2.54 34.29,2.54 -34.29,2.54 -34.29,-2.54
  text "'.Designator'" at -4.047,-2.68 h1
Top Courtyard:
  lines w0.254: -34.79,-4.07 34.79,-4.07 34.79,4.07 -34.79,4.07 -34.79,-4.07
Top Designator:
  text ".Designator" at -7.618,-0.508 h1.52

## Samtec_HLE-127-02-xxx-DV-LC_2x27_P2.54mm_Horizontal [mm]
pads (56):
  rect 1.27x2.29 smd: 1(-33.02,2.525) 2(-33.02,-2.525) 3(-30.48,2.525) 4(-30.48,-2.525) 5(-27.94,2.525) 6(-27.94,-2.525) 7(-25.4,2.525) 8(-25.4,-2.525) 9(-22.86,2.525) 10(-22.86,-2.525) 11(-20.32,2.525) 12(-20.32,-2.525) 13(-17.78,2.525) 14(-17.78,-2.525) 15(-15.24,2.525) 16(-15.24,-2.525) 17(-12.7,2.525) 18(-12.7,-2.525) 19(-10.16,2.525) 20(-10.16,-2.525) 21(-7.62,2.525) 22(-7.62,-2.525) 23(-5.08,2.525) 24(-5.08,-2.525) 25(-2.54,2.525) 26(-2.54,-2.525) 27(0,2.525) 28(0,-2.525) 29(2.54,2.525) 30(2.54,-2.525) 31(5.08,2.525) 32(5.08,-2.525) 33(7.62,2.525) 34(7.62,-2.525) 35(10.16,2.525) 36(10.16,-2.525) 37(12.7,2.525) 38(12.7,-2.525) 39(15.24,2.525) 40(15.24,-2.525) 41(17.78,2.525) 42(17.78,-2.525) 43(20.32,2.525) 44(20.32,-2.525) 45(22.86,2.525) 46(22.86,-2.525) 47(25.4,2.525) 48(25.4,-2.525) 49(27.94,2.525) 50(27.94,-2.525) 51(30.48,2.525) 52(30.48,-2.525) 53(33.02,2.525) 54(33.02,-2.525)
  round 1.19 hole 1.19: Un1(-31.75,0) Un2(31.75,0)
F.SilkS:
  lines w0.254: -33.915,-2.65 -34.4,-2.65 -34.4,2.65 -33.915,2.65 -33.915,3.67 ; -32.125,-2.65 -31.375,-2.65 ; -32.125,2.65 -31.375,2.65 ; -29.585,-2.65 -28.835,-2.65 ; -29.585,2.65 -28.835,2.65 ; -27.045,-2.65 -26.295,-2.65 ; -27.045,2.65 -26.295,2.65 ; -24.505,-2.65 -23.755,-2.65 ; -24.505,2.65 -23.755,2.65 ; -21.965,-2.65 -21.215,-2.65 ; -21.965,2.65 -21.215,2.65 ; -19.425,-2.65 -18.675,-2.65 ; -19.425,2.65 -18.675,2.65 ; -16.885,-2.65 -16.135,-2.65 ; -16.885,2.65 -16.135,2.65 ; -14.345,-2.65 -13.595,-2.65 ; -14.345,2.65 -13.595,2.65 ; -11.805,-2.65 -11.055,-2.65 ; -11.805,2.65 -11.055,2.65 ; -9.265,-2.65 -8.515,-2.65 ; -9.265,2.65 -8.515,2.65 ; -6.725,-2.65 -5.975,-2.65 ; -6.725,2.65 -5.975,2.65 ; -4.185,-2.65 -3.435,-2.65 ; -4.185,2.65 -3.435,2.65 ; -1.645,-2.65 -0.895,-2.65 ; -1.645,2.65 -0.895,2.65 ; 0.895,-2.65 1.645,-2.65 ; 0.895,2.65 1.645,2.65 ; 3.435,-2.65 4.185,-2.65 ; 3.435,2.65 4.185,2.65 ; 5.975,-2.65 6.725,-2.65 ; 5.975,2.65 6.725,2.65 ; 8.515,-2.65 9.265,-2.65 ; 8.515,2.65 9.265,2.65 ; 11.055,-2.65 11.805,-2.65 ; 11.055,2.65 11.805,2.65 ; 13.595,-2.65 14.345,-2.65 ; 13.595,2.65 14.345,2.65 ; 16.135,-2.65 16.885,-2.65 ; 16.135,2.65 16.885,2.65 ; 18.675,-2.65 19.425,-2.65 ; 18.675,2.65 19.425,2.65 ; 21.215,-2.65 21.965,-2.65 ; 21.215,2.65 21.965,2.65 ; 23.755,-2.65 24.505,-2.65 ; 23.755,2.65 24.505,2.65 ; 26.295,-2.65 27.045,-2.65 ; 26.295,2.65 27.045,2.65 ; 28.835,-2.65 29.585,-2.65 ; 28.835,2.65 29.585,2.65 ; 31.375,-2.65 32.125,-2.65 ; 31.375,2.65 32.125,2.65 ; 33.915,-2.65 34.4,-2.65 34.4,2.65 33.915,2.65
Top Assembly:
  lines w0.254: -33.52,2.54 -33.02,1.833 -32.52,2.54 ; -34.29,-2.54 34.29,-2.54 34.29,2.54 -34.29,2.54 -34.29,-2.54
  text "'.Designator'" at -4.047,-2.68 h1
Top Courtyard:
  lines w0.254: -34.79,-4.17 34.79,-4.17 34.79,4.17 -34.79,4.17 -34.79,-4.17
Top Designator:
  text ".Designator" at -7.618,-0.508 h1.52

## Samtec_HLE-127-02-xxx-DV_2x27_P2.54mm_Horizontal [mm]
pads (54):
  rect 1.27x2.29 smd: 1(-33.02,2.525) 2(-33.02,-2.525) 3(-30.48,2.525) 4(-30.48,-2.525) 5(-27.94,2.525) 6(-27.94,-2.525) 7(-25.4,2.525) 8(-25.4,-2.525) 9(-22.86,2.525) 10(-22.86,-2.525) 11(-20.32,2.525) 12(-20.32,-2.525) 13(-17.78,2.525) 14(-17.78,-2.525) 15(-15.24,2.525) 16(-15.24,-2.525) 17(-12.7,2.525) 18(-12.7,-2.525) 19(-10.16,2.525) 20(-10.16,-2.525) 21(-7.62,2.525) 22(-7.62,-2.525) 23(-5.08,2.525) 24(-5.08,-2.525) 25(-2.54,2.525) 26(-2.54,-2.525) 27(0,2.525) 28(0,-2.525) 29(2.54,2.525) 30(2.54,-2.525) 31(5.08,2.525) 32(5.08,-2.525) 33(7.62,2.525) 34(7.62,-2.525) 35(10.16,2.525) 36(10.16,-2.525) 37(12.7,2.525) 38(12.7,-2.525) 39(15.24,2.525) 40(15.24,-2.525) 41(17.78,2.525) 42(17.78,-2.525) 43(20.32,2.525) 44(20.32,-2.525) 45(22.86,2.525) 46(22.86,-2.525) 47(25.4,2.525) 48(25.4,-2.525) 49(27.94,2.525) 50(27.94,-2.525) 51(30.48,2.525) 52(30.48,-2.525) 53(33.02,2.525) 54(33.02,-2.525)
F.SilkS:
  lines w0.254: -33.915,-2.65 -34.4,-2.65 -34.4,2.65 -33.915,2.65 -33.915,3.67 ; -32.125,-2.65 -31.375,-2.65 ; -32.125,2.65 -31.375,2.65 ; -29.585,-2.65 -28.835,-2.65 ; -29.585,2.65 -28.835,2.65 ; -27.045,-2.65 -26.295,-2.65 ; -27.045,2.65 -26.295,2.65 ; -24.505,-2.65 -23.755,-2.65 ; -24.505,2.65 -23.755,2.65 ; -21.965,-2.65 -21.215,-2.65 ; -21.965,2.65 -21.215,2.65 ; -19.425,-2.65 -18.675,-2.65 ; -19.425,2.65 -18.675,2.65 ; -16.885,-2.65 -16.135,-2.65 ; -16.885,2.65 -16.135,2.65 ; -14.345,-2.65 -13.595,-2.65 ; -14.345,2.65 -13.595,2.65 ; -11.805,-2.65 -11.055,-2.65 ; -11.805,2.65 -11.055,2.65 ; -9.265,-2.65 -8.515,-2.65 ; -9.265,2.65 -8.515,2.65 ; -6.725,-2.65 -5.975,-2.65 ; -6.725,2.65 -5.975,2.65 ; -4.185,-2.65 -3.435,-2.65 ; -4.185,2.65 -3.435,2.65 ; -1.645,-2.65 -0.895,-2.65 ; -1.645,2.65 -0.895,2.65 ; 0.895,-2.65 1.645,-2.65 ; 0.895,2.65 1.645,2.65 ; 3.435,-2.65 4.185,-2.65 ; 3.435,2.65 4.185,2.65 ; 5.975,-2.65 6.725,-2.65 ; 5.975,2.65 6.725,2.65 ; 8.515,-2.65 9.265,-2.65 ; 8.515,2.65 9.265,2.65 ; 11.055,-2.65 11.805,-2.65 ; 11.055,2.65 11.805,2.65 ; 13.595,-2.65 14.345,-2.65 ; 13.595,2.65 14.345,2.65 ; 16.135,-2.65 16.885,-2.65 ; 16.135,2.65 16.885,2.65 ; 18.675,-2.65 19.425,-2.65 ; 18.675,2.65 19.425,2.65 ; 21.215,-2.65 21.965,-2.65 ; 21.215,2.65 21.965,2.65 ; 23.755,-2.65 24.505,-2.65 ; 23.755,2.65 24.505,2.65 ; 26.295,-2.65 27.045,-2.65 ; 26.295,2.65 27.045,2.65 ; 28.835,-2.65 29.585,-2.65 ; 28.835,2.65 29.585,2.65 ; 31.375,-2.65 32.125,-2.65 ; 31.375,2.65 32.125,2.65 ; 33.915,-2.65 34.4,-2.65 34.4,2.65 33.915,2.65
Top Assembly:
  lines w0.254: -33.52,2.54 -33.02,1.833 -32.52,2.54 ; -34.29,-2.54 34.29,-2.54 34.29,2.54 -34.29,2.54 -34.29,-2.54
  text "'.Designator'" at -4.047,-2.68 h1
Top Courtyard:
  lines w0.254: -34.79,-4.17 34.79,-4.17 34.79,4.17 -34.79,4.17 -34.79,-4.17
Top Designator:
  text ".Designator" at -7.618,-0.508 h1.52

## Samtec_HLE-128-02-xxx-DV-A_2x28_P2.54mm_Horizontal [mm]
pads (58):
  rect 1.27x2.29 smd: 1(-34.29,2.525) 2(-34.29,-2.525) 3(-31.75,2.525) 4(-31.75,-2.525) 5(-29.21,2.525) 6(-29.21,-2.525) 7(-26.67,2.525) 8(-26.67,-2.525) 9(-24.13,2.525) 10(-24.13,-2.525) 11(-21.59,2.525) 12(-21.59,-2.525) 13(-19.05,2.525) 14(-19.05,-2.525) 15(-16.51,2.525) 16(-16.51,-2.525) 17(-13.97,2.525) 18(-13.97,-2.525) 19(-11.43,2.525) 20(-11.43,-2.525) 21(-8.89,2.525) 22(-8.89,-2.525) 23(-6.35,2.525) 24(-6.35,-2.525) 25(-3.81,2.525) 26(-3.81,-2.525) 27(-1.27,2.525) 28(-1.27,-2.525) 29(1.27,2.525) 30(1.27,-2.525) 31(3.81,2.525) 32(3.81,-2.525) 33(6.35,2.525) 34(6.35,-2.525) 35(8.89,2.525) 36(8.89,-2.525) 37(11.43,2.525) 38(11.43,-2.525) 39(13.97,2.525) 40(13.97,-2.525) 41(16.51,2.525) 42(16.51,-2.525) 43(19.05,2.525) 44(19.05,-2.525) 45(21.59,2.525) 46(21.59,-2.525) 47(24.13,2.525) 48(24.13,-2.525) 49(26.67,2.525) 50(26.67,-2.525) 51(29.21,2.525) 52(29.21,-2.525) 53(31.75,2.525) 54(31.75,-2.525) 55(34.29,2.525) 56(34.29,-2.525)
  round 1.78 hole 1.78: Un1(-33.02,0) Un2(33.02,0)
F.SilkS:
  lines w0.254: -35.185,-2.65 -35.67,-2.65 -35.67,2.65 -35.185,2.65 -35.185,3.67 ; -33.395,-2.65 -32.645,-2.65 ; -33.395,2.65 -32.645,2.65 ; -30.855,-2.65 -30.105,-2.65 ; -30.855,2.65 -30.105,2.65 ; -28.315,-2.65 -27.565,-2.65 ; -28.315,2.65 -27.565,2.65 ; -25.775,-2.65 -25.025,-2.65 ; -25.775,2.65 -25.025,2.65 ; -23.235,-2.65 -22.485,-2.65 ; -23.235,2.65 -22.485,2.65 ; -20.695,-2.65 -19.945,-2.65 ; -20.695,2.65 -19.945,2.65 ; -18.155,-2.65 -17.405,-2.65 ; -18.155,2.65 -17.405,2.65 ; -15.615,-2.65 -14.865,-2.65 ; -15.615,2.65 -14.865,2.65 ; -13.075,-2.65 -12.325,-2.65 ; -13.075,2.65 -12.325,2.65 ; -10.535,-2.65 -9.785,-2.65 ; -10.535,2.65 -9.785,2.65 ; -7.995,-2.65 -7.245,-2.65 ; -7.995,2.65 -7.245,2.65 ; -5.455,-2.65 -4.705,-2.65 ; -5.455,2.65 -4.705,2.65 ; -2.915,-2.65 -2.165,-2.65 ; -2.915,2.65 -2.165,2.65 ; -0.375,-2.65 0.375,-2.65 ; -0.375,2.65 0.375,2.65 ; 2.165,-2.65 2.915,-2.65 ; 2.165,2.65 2.915,2.65 ; 4.705,-2.65 5.455,-2.65 ; 4.705,2.65 5.455,2.65 ; 7.245,-2.65 7.995,-2.65 ; 7.245,2.65 7.995,2.65 ; 9.785,-2.65 10.535,-2.65 ; 9.785,2.65 10.535,2.65 ; 12.325,-2.65 13.075,-2.65 ; 12.325,2.65 13.075,2.65 ; 14.865,-2.65 15.615,-2.65 ; 14.865,2.65 15.615,2.65 ; 17.405,-2.65 18.155,-2.65 ; 17.405,2.65 18.155,2.65 ; 19.945,-2.65 20.695,-2.65 ; 19.945,2.65 20.695,2.65 ; 22.485,-2.65 23.235,-2.65 ; 22.485,2.65 23.235,2.65 ; 25.025,-2.65 25.775,-2.65 ; 25.025,2.65 25.775,2.65 ; 27.565,-2.65 28.315,-2.65 ; 27.565,2.65 28.315,2.65 ; 30.105,-2.65 30.855,-2.65 ; 30.105,2.65 30.855,2.65 ; 32.645,-2.65 33.395,-2.65 ; 32.645,2.65 33.395,2.65 ; 35.185,-2.65 35.67,-2.65 35.67,2.65 35.185,2.65
Top Assembly:
  lines w0.254: -34.79,2.54 -34.29,1.833 -33.79,2.54 ; -35.56,-2.54 35.56,-2.54 35.56,2.54 -35.56,2.54 -35.56,-2.54
  text "'.Designator'" at -4.047,-2.68 h1
Top Courtyard:
  lines w0.254: -36.06,-4.17 36.06,-4.17 36.06,4.17 -36.06,4.17 -36.06,-4.17
Top Designator:
  text ".Designator" at -7.618,-0.508 h1.52

## Samtec_HLE-128-02-xxx-DV-BE-A_2x28_P2.54mm_Horizontal [mm]
pads (114):
  rect 1.27x1.68 smd: 1(-34.29,2.72) 2(-34.29,-2.72) 3(-31.75,2.72) 4(-31.75,-2.72) 5(-29.21,2.72) 6(-29.21,-2.72) 7(-26.67,2.72) 8(-26.67,-2.72) 9(-24.13,2.72) 10(-24.13,-2.72) 11(-21.59,2.72) 12(-21.59,-2.72) 13(-19.05,2.72) 14(-19.05,-2.72) 15(-16.51,2.72) 16(-16.51,-2.72) 17(-13.97,2.72) 18(-13.97,-2.72) 19(-11.43,2.72) 20(-11.43,-2.72) 21(-8.89,2.72) 22(-8.89,-2.72) 23(-6.35,2.72) 24(-6.35,-2.72) 25(-3.81,2.72) 26(-3.81,-2.72) 27(-1.27,2.72) 28(-1.27,-2.72) 29(1.27,2.72) 30(1.27,-2.72) 31(3.81,2.72) 32(3.81,-2.72) 33(6.35,2.72) 34(6.35,-2.72) 35(8.89,2.72) 36(8.89,-2.72) 37(11.43,2.72) 38(11.43,-2.72) 39(13.97,2.72) 40(13.97,-2.72) 41(16.51,2.72) 42(16.51,-2.72) 43(19.05,2.72) 44(19.05,-2.72) 45(21.59,2.72) 46(21.59,-2.72) 47(24.13,2.72) 48(24.13,-2.72) 49(26.67,2.72) 50(26.67,-2.72) 51(29.21,2.72) 52(29.21,-2.72) 53(31.75,2.72) 54(31.75,-2.72) 55(34.29,2.72) 56(34.29,-2.72)
  round 0.97 hole 0.97: Un1(-34.29,1.27) Un2(-34.29,-1.27) Un4(-31.75,1.27) Un5(-31.75,-1.27) Un6(-29.21,1.27) Un7(-29.21,-1.27) Un8(-26.67,1.27) Un9(-26.67,-1.27) Un10(-24.13,1.27) Un11(-24.13,-1.27) Un12(-21.59,1.27) Un13(-21.59,-1.27) Un14(-19.05,1.27) Un15(-19.05,-1.27) Un16(-16.51,1.27) Un17(-16.51,-1.27) Un18(-13.97,1.27) Un19(-13.97,-1.27) Un20(-11.43,1.27) Un21(-11.43,-1.27) Un22(-8.89,1.27) Un23(-8.89,-1.27) Un24(-6.35,1.27) Un25(-6.35,-1.27) Un26(-3.81,1.27) Un27(-3.81,-1.27) Un28(-1.27,1.27) Un29(-1.27,-1.27) Un30(1.27,1.27) Un31(1.27,-1.27) Un32(3.81,1.27) Un33(3.81,-1.27) Un34(6.35,1.27) Un35(6.35,-1.27) Un36(8.89,1.27) Un37(8.89,-1.27) Un38(11.43,1.27) Un39(11.43,-1.27) Un40(13.97,1.27) Un41(13.97,-1.27) Un42(16.51,1.27) Un43(16.51,-1.27) Un44(19.05,1.27) Un45(19.05,-1.27) Un46(21.59,1.27) Un47(21.59,-1.27) Un48(24.13,1.27) Un49(24.13,-1.27) Un50(26.67,1.27) Un51(26.67,-1.27) Un52(29.21,1.27) Un53(29.21,-1.27) Un54(31.75,1.27) Un55(31.75,-1.27) Un57(34.29,1.27) Un58(34.29,-1.27)
  round 1.78 hole 1.78: Un3(-33.02,0) Un56(33.02,0)
F.SilkS:
  lines w0.254: -35.185,-2.65 -35.67,-2.65 -35.67,2.65 -35.185,2.65 -35.185,3.56 ; -33.395,-2.65 -32.645,-2.65 ; -33.395,2.65 -32.645,2.65 ; -30.855,-2.65 -30.105,-2.65 ; -30.855,2.65 -30.105,2.65 ; -28.315,-2.65 -27.565,-2.65 ; -28.315,2.65 -27.565,2.65 ; -25.775,-2.65 -25.025,-2.65 ; -25.775,2.65 -25.025,2.65 ; -23.235,-2.65 -22.485,-2.65 ; -23.235,2.65 -22.485,2.65 ; -20.695,-2.65 -19.945,-2.65 ; -20.695,2.65 -19.945,2.65 ; -18.155,-2.65 -17.405,-2.65 ; -18.155,2.65 -17.405,2.65 ; -15.615,-2.65 -14.865,-2.65 ; -15.615,2.65 -14.865,2.65 ; -13.075,-2.65 -12.325,-2.65 ; -13.075,2.65 -12.325,2.65 ; -10.535,-2.65 -9.785,-2.65 ; -10.535,2.65 -9.785,2.65 ; -7.995,-2.65 -7.245,-2.65 ; -7.995,2.65 -7.245,2.65 ; -5.455,-2.65 -4.705,-2.65 ; -5.455,2.65 -4.705,2.65 ; -2.915,-2.65 -2.165,-2.65 ; -2.915,2.65 -2.165,2.65 ; -0.375,-2.65 0.375,-2.65 ; -0.375,2.65 0.375,2.65 ; 2.165,-2.65 2.915,-2.65 ; 2.165,2.65 2.915,2.65 ; 4.705,-2.65 5.455,-2.65 ; 4.705,2.65 5.455,2.65 ; 7.245,-2.65 7.995,-2.65 ; 7.245,2.65 7.995,2.65 ; 9.785,-2.65 10.535,-2.65 ; 9.785,2.65 10.535,2.65 ; 12.325,-2.65 13.075,-2.65 ; 12.325,2.65 13.075,2.65 ; 14.865,-2.65 15.615,-2.65 ; 14.865,2.65 15.615,2.65 ; 17.405,-2.65 18.155,-2.65 ; 17.405,2.65 18.155,2.65 ; 19.945,-2.65 20.695,-2.65 ; 19.945,2.65 20.695,2.65 ; 22.485,-2.65 23.235,-2.65 ; 22.485,2.65 23.235,2.65 ; 25.025,-2.65 25.775,-2.65 ; 25.025,2.65 25.775,2.65 ; 27.565,-2.65 28.315,-2.65 ; 27.565,2.65 28.315,2.65 ; 30.105,-2.65 30.855,-2.65 ; 30.105,2.65 30.855,2.65 ; 32.645,-2.65 33.395,-2.65 ; 32.645,2.65 33.395,2.65 ; 35.185,-2.65 35.67,-2.65 35.67,2.65 35.185,2.65
Top Assembly:
  lines w0.254: -34.79,2.54 -34.29,1.833 -33.79,2.54 ; -35.56,-2.54 35.56,-2.54 35.56,2.54 -35.56,2.54 -35.56,-2.54
  text "'.Designator'" at -4.047,-2.68 h1
Top Courtyard:
  lines w0.254: -36.06,-4.07 36.06,-4.07 36.06,4.07 -36.06,4.07 -36.06,-4.07
Top Designator:
  text ".Designator" at -7.618,-0.508 h1.52

## Samtec_HLE-128-02-xxx-DV-BE-LC_2x28_P2.54mm_Horizontal [mm]
pads (114):
  rect 1.27x1.68 smd: 1(-34.29,2.72) 2(-34.29,-2.72) 3(-31.75,2.72) 4(-31.75,-2.72) 5(-29.21,2.72) 6(-29.21,-2.72) 7(-26.67,2.72) 8(-26.67,-2.72) 9(-24.13,2.72) 10(-24.13,-2.72) 11(-21.59,2.72) 12(-21.59,-2.72) 13(-19.05,2.72) 14(-19.05,-2.72) 15(-16.51,2.72) 16(-16.51,-2.72) 17(-13.97,2.72) 18(-13.97,-2.72) 19(-11.43,2.72) 20(-11.43,-2.72) 21(-8.89,2.72) 22(-8.89,-2.72) 23(-6.35,2.72) 24(-6.35,-2.72) 25(-3.81,2.72) 26(-3.81,-2.72) 27(-1.27,2.72) 28(-1.27,-2.72) 29(1.27,2.72) 30(1.27,-2.72) 31(3.81,2.72) 32(3.81,-2.72) 33(6.35,2.72) 34(6.35,-2.72) 35(8.89,2.72) 36(8.89,-2.72) 37(11.43,2.72) 38(11.43,-2.72) 39(13.97,2.72) 40(13.97,-2.72) 41(16.51,2.72) 42(16.51,-2.72) 43(19.05,2.72) 44(19.05,-2.72) 45(21.59,2.72) 46(21.59,-2.72) 47(24.13,2.72) 48(24.13,-2.72) 49(26.67,2.72) 50(26.67,-2.72) 51(29.21,2.72) 52(29.21,-2.72) 53(31.75,2.72) 54(31.75,-2.72) 55(34.29,2.72) 56(34.29,-2.72)
  round 0.97 hole 0.97: Un1(-34.29,1.27) Un2(-34.29,-1.27) Un4(-31.75,1.27) Un5(-31.75,-1.27) Un6(-29.21,1.27) Un7(-29.21,-1.27) Un8(-26.67,1.27) Un9(-26.67,-1.27) Un10(-24.13,1.27) Un11(-24.13,-1.27) Un12(-21.59,1.27) Un13(-21.59,-1.27) Un14(-19.05,1.27) Un15(-19.05,-1.27) Un16(-16.51,1.27) Un17(-16.51,-1.27) Un18(-13.97,1.27) Un19(-13.97,-1.27) Un20(-11.43,1.27) Un21(-11.43,-1.27) Un22(-8.89,1.27) Un23(-8.89,-1.27) Un24(-6.35,1.27) Un25(-6.35,-1.27) Un26(-3.81,1.27) Un27(-3.81,-1.27) Un28(-1.27,1.27) Un29(-1.27,-1.27) Un30(1.27,1.27) Un31(1.27,-1.27) Un32(3.81,1.27) Un33(3.81,-1.27) Un34(6.35,1.27) Un35(6.35,-1.27) Un36(8.89,1.27) Un37(8.89,-1.27) Un38(11.43,1.27) Un39(11.43,-1.27) Un40(13.97,1.27) Un41(13.97,-1.27) Un42(16.51,1.27) Un43(16.51,-1.27) Un44(19.05,1.27) Un45(19.05,-1.27) Un46(21.59,1.27) Un47(21.59,-1.27) Un48(24.13,1.27) Un49(24.13,-1.27) Un50(26.67,1.27) Un51(26.67,-1.27) Un52(29.21,1.27) Un53(29.21,-1.27) Un54(31.75,1.27) Un55(31.75,-1.27) Un57(34.29,1.27) Un58(34.29,-1.27)
  round 1.19 hole 1.19: Un3(-33.02,0) Un56(33.02,0)
F.SilkS:
  lines w0.254: -35.185,-2.65 -35.67,-2.65 -35.67,2.65 -35.185,2.65 -35.185,3.56 ; -33.395,-2.65 -32.645,-2.65 ; -33.395,2.65 -32.645,2.65 ; -30.855,-2.65 -30.105,-2.65 ; -30.855,2.65 -30.105,2.65 ; -28.315,-2.65 -27.565,-2.65 ; -28.315,2.65 -27.565,2.65 ; -25.775,-2.65 -25.025,-2.65 ; -25.775,2.65 -25.025,2.65 ; -23.235,-2.65 -22.485,-2.65 ; -23.235,2.65 -22.485,2.65 ; -20.695,-2.65 -19.945,-2.65 ; -20.695,2.65 -19.945,2.65 ; -18.155,-2.65 -17.405,-2.65 ; -18.155,2.65 -17.405,2.65 ; -15.615,-2.65 -14.865,-2.65 ; -15.615,2.65 -14.865,2.65 ; -13.075,-2.65 -12.325,-2.65 ; -13.075,2.65 -12.325,2.65 ; -10.535,-2.65 -9.785,-2.65 ; -10.535,2.65 -9.785,2.65 ; -7.995,-2.65 -7.245,-2.65 ; -7.995,2.65 -7.245,2.65 ; -5.455,-2.65 -4.705,-2.65 ; -5.455,2.65 -4.705,2.65 ; -2.915,-2.65 -2.165,-2.65 ; -2.915,2.65 -2.165,2.65 ; -0.375,-2.65 0.375,-2.65 ; -0.375,2.65 0.375,2.65 ; 2.165,-2.65 2.915,-2.65 ; 2.165,2.65 2.915,2.65 ; 4.705,-2.65 5.455,-2.65 ; 4.705,2.65 5.455,2.65 ; 7.245,-2.65 7.995,-2.65 ; 7.245,2.65 7.995,2.65 ; 9.785,-2.65 10.535,-2.65 ; 9.785,2.65 10.535,2.65 ; 12.325,-2.65 13.075,-2.65 ; 12.325,2.65 13.075,2.65 ; 14.865,-2.65 15.615,-2.65 ; 14.865,2.65 15.615,2.65 ; 17.405,-2.65 18.155,-2.65 ; 17.405,2.65 18.155,2.65 ; 19.945,-2.65 20.695,-2.65 ; 19.945,2.65 20.695,2.65 ; 22.485,-2.65 23.235,-2.65 ; 22.485,2.65 23.235,2.65 ; 25.025,-2.65 25.775,-2.65 ; 25.025,2.65 25.775,2.65 ; 27.565,-2.65 28.315,-2.65 ; 27.565,2.65 28.315,2.65 ; 30.105,-2.65 30.855,-2.65 ; 30.105,2.65 30.855,2.65 ; 32.645,-2.65 33.395,-2.65 ; 32.645,2.65 33.395,2.65 ; 35.185,-2.65 35.67,-2.65 35.67,2.65 35.185,2.65
Top Assembly:
  lines w0.254: -34.79,2.54 -34.29,1.833 -33.79,2.54 ; -35.56,-2.54 35.56,-2.54 35.56,2.54 -35.56,2.54 -35.56,-2.54
  text "'.Designator'" at -4.047,-2.68 h1
Top Courtyard:
  lines w0.254: -36.06,-4.07 36.06,-4.07 36.06,4.07 -36.06,4.07 -36.06,-4.07
Top Designator:
  text ".Designator" at -7.618,-0.508 h1.52

## Samtec_HLE-128-02-xxx-DV-BE_2x28_P2.54mm_Horizontal [mm]
pads (112):
  rect 1.27x1.68 smd: 1(-34.29,2.72) 2(-34.29,-2.72) 3(-31.75,2.72) 4(-31.75,-2.72) 5(-29.21,2.72) 6(-29.21,-2.72) 7(-26.67,2.72) 8(-26.67,-2.72) 9(-24.13,2.72) 10(-24.13,-2.72) 11(-21.59,2.72) 12(-21.59,-2.72) 13(-19.05,2.72) 14(-19.05,-2.72) 15(-16.51,2.72) 16(-16.51,-2.72) 17(-13.97,2.72) 18(-13.97,-2.72) 19(-11.43,2.72) 20(-11.43,-2.72) 21(-8.89,2.72) 22(-8.89,-2.72) 23(-6.35,2.72) 24(-6.35,-2.72) 25(-3.81,2.72) 26(-3.81,-2.72) 27(-1.27,2.72) 28(-1.27,-2.72) 29(1.27,2.72) 30(1.27,-2.72) 31(3.81,2.72) 32(3.81,-2.72) 33(6.35,2.72) 34(6.35,-2.72) 35(8.89,2.72) 36(8.89,-2.72) 37(11.43,2.72) 38(11.43,-2.72) 39(13.97,2.72) 40(13.97,-2.72) 41(16.51,2.72) 42(16.51,-2.72) 43(19.05,2.72) 44(19.05,-2.72) 45(21.59,2.72) 46(21.59,-2.72) 47(24.13,2.72) 48(24.13,-2.72) 49(26.67,2.72) 50(26.67,-2.72) 51(29.21,2.72) 52(29.21,-2.72) 53(31.75,2.72) 54(31.75,-2.72) 55(34.29,2.72) 56(34.29,-2.72)
  round 0.97 hole 0.97: Un1(-34.29,1.27) Un2(-34.29,-1.27) Un3(-31.75,1.27) Un4(-31.75,-1.27) Un5(-29.21,1.27) Un6(-29.21,-1.27) Un7(-26.67,1.27) Un8(-26.67,-1.27) Un9(-24.13,1.27) Un10(-24.13,-1.27) Un11(-21.59,1.27) Un12(-21.59,-1.27) Un13(-19.05,1.27) Un14(-19.05,-1.27) Un15(-16.51,1.27) Un16(-16.51,-1.27) Un17(-13.97,1.27) Un18(-13.97,-1.27) Un19(-11.43,1.27) Un20(-11.43,-1.27) Un21(-8.89,1.27) Un22(-8.89,-1.27) Un23(-6.35,1.27) Un24(-6.35,-1.27) Un25(-3.81,1.27) Un26(-3.81,-1.27) Un27(-1.27,1.27) Un28(-1.27,-1.27) Un29(1.27,1.27) Un30(1.27,-1.27) Un31(3.81,1.27) Un32(3.81,-1.27) Un33(6.35,1.27) Un34(6.35,-1.27) Un35(8.89,1.27) Un36(8.89,-1.27) Un37(11.43,1.27) Un38(11.43,-1.27) Un39(13.97,1.27) Un40(13.97,-1.27) Un41(16.51,1.27) Un42(16.51,-1.27) Un43(19.05,1.27) Un44(19.05,-1.27) Un45(21.59,1.27) Un46(21.59,-1.27) Un47(24.13,1.27) Un48(24.13,-1.27) Un49(26.67,1.27) Un50(26.67,-1.27) Un51(29.21,1.27) Un52(29.21,-1.27) Un53(31.75,1.27) Un54(31.75,-1.27) Un55(34.29,1.27) Un56(34.29,-1.27)
F.SilkS:
  lines w0.254: -35.185,-2.65 -35.67,-2.65 -35.67,2.65 -35.185,2.65 -35.185,3.56 ; -33.395,-2.65 -32.645,-2.65 ; -33.395,2.65 -32.645,2.65 ; -30.855,-2.65 -30.105,-2.65 ; -30.855,2.65 -30.105,2.65 ; -28.315,-2.65 -27.565,-2.65 ; -28.315,2.65 -27.565,2.65 ; -25.775,-2.65 -25.025,-2.65 ; -25.775,2.65 -25.025,2.65 ; -23.235,-2.65 -22.485,-2.65 ; -23.235,2.65 -22.485,2.65 ; -20.695,-2.65 -19.945,-2.65 ; -20.695,2.65 -19.945,2.65 ; -18.155,-2.65 -17.405,-2.65 ; -18.155,2.65 -17.405,2.65 ; -15.615,-2.65 -14.865,-2.65 ; -15.615,2.65 -14.865,2.65 ; -13.075,-2.65 -12.325,-2.65 ; -13.075,2.65 -12.325,2.65 ; -10.535,-2.65 -9.785,-2.65 ; -10.535,2.65 -9.785,2.65 ; -7.995,-2.65 -7.245,-2.65 ; -7.995,2.65 -7.245,2.65 ; -5.455,-2.65 -4.705,-2.65 ; -5.455,2.65 -4.705,2.65 ; -2.915,-2.65 -2.165,-2.65 ; -2.915,2.65 -2.165,2.65 ; -0.375,-2.65 0.375,-2.65 ; -0.375,2.65 0.375,2.65 ; 2.165,-2.65 2.915,-2.65 ; 2.165,2.65 2.915,2.65 ; 4.705,-2.65 5.455,-2.65 ; 4.705,2.65 5.455,2.65 ; 7.245,-2.65 7.995,-2.65 ; 7.245,2.65 7.995,2.65 ; 9.785,-2.65 10.535,-2.65 ; 9.785,2.65 10.535,2.65 ; 12.325,-2.65 13.075,-2.65 ; 12.325,2.65 13.075,2.65 ; 14.865,-2.65 15.615,-2.65 ; 14.865,2.65 15.615,2.65 ; 17.405,-2.65 18.155,-2.65 ; 17.405,2.65 18.155,2.65 ; 19.945,-2.65 20.695,-2.65 ; 19.945,2.65 20.695,2.65 ; 22.485,-2.65 23.235,-2.65 ; 22.485,2.65 23.235,2.65 ; 25.025,-2.65 25.775,-2.65 ; 25.025,2.65 25.775,2.65 ; 27.565,-2.65 28.315,-2.65 ; 27.565,2.65 28.315,2.65 ; 30.105,-2.65 30.855,-2.65 ; 30.105,2.65 30.855,2.65 ; 32.645,-2.65 33.395,-2.65 ; 32.645,2.65 33.395,2.65 ; 35.185,-2.65 35.67,-2.65 35.67,2.65 35.185,2.65
Top Assembly:
  lines w0.254: -34.79,2.54 -34.29,1.833 -33.79,2.54 ; -35.56,-2.54 35.56,-2.54 35.56,2.54 -35.56,2.54 -35.56,-2.54
  text "'.Designator'" at -4.047,-2.68 h1
Top Courtyard:
  lines w0.254: -36.06,-4.07 36.06,-4.07 36.06,4.07 -36.06,4.07 -36.06,-4.07
Top Designator:
  text ".Designator" at -7.618,-0.508 h1.52

## Samtec_HLE-128-02-xxx-DV-LC_2x28_P2.54mm_Horizontal [mm]
pads (58):
  rect 1.27x2.29 smd: 1(-34.29,2.525) 2(-34.29,-2.525) 3(-31.75,2.525) 4(-31.75,-2.525) 5(-29.21,2.525) 6(-29.21,-2.525) 7(-26.67,2.525) 8(-26.67,-2.525) 9(-24.13,2.525) 10(-24.13,-2.525) 11(-21.59,2.525) 12(-21.59,-2.525) 13(-19.05,2.525) 14(-19.05,-2.525) 15(-16.51,2.525) 16(-16.51,-2.525) 17(-13.97,2.525) 18(-13.97,-2.525) 19(-11.43,2.525) 20(-11.43,-2.525) 21(-8.89,2.525) 22(-8.89,-2.525) 23(-6.35,2.525) 24(-6.35,-2.525) 25(-3.81,2.525) 26(-3.81,-2.525) 27(-1.27,2.525) 28(-1.27,-2.525) 29(1.27,2.525) 30(1.27,-2.525) 31(3.81,2.525) 32(3.81,-2.525) 33(6.35,2.525) 34(6.35,-2.525) 35(8.89,2.525) 36(8.89,-2.525) 37(11.43,2.525) 38(11.43,-2.525) 39(13.97,2.525) 40(13.97,-2.525) 41(16.51,2.525) 42(16.51,-2.525) 43(19.05,2.525) 44(19.05,-2.525) 45(21.59,2.525) 46(21.59,-2.525) 47(24.13,2.525) 48(24.13,-2.525) 49(26.67,2.525) 50(26.67,-2.525) 51(29.21,2.525) 52(29.21,-2.525) 53(31.75,2.525) 54(31.75,-2.525) 55(34.29,2.525) 56(34.29,-2.525)
  round 1.19 hole 1.19: Un1(-33.02,0) Un2(33.02,0)
F.SilkS:
  lines w0.254: -35.185,-2.65 -35.67,-2.65 -35.67,2.65 -35.185,2.65 -35.185,3.67 ; -33.395,-2.65 -32.645,-2.65 ; -33.395,2.65 -32.645,2.65 ; -30.855,-2.65 -30.105,-2.65 ; -30.855,2.65 -30.105,2.65 ; -28.315,-2.65 -27.565,-2.65 ; -28.315,2.65 -27.565,2.65 ; -25.775,-2.65 -25.025,-2.65 ; -25.775,2.65 -25.025,2.65 ; -23.235,-2.65 -22.485,-2.65 ; -23.235,2.65 -22.485,2.65 ; -20.695,-2.65 -19.945,-2.65 ; -20.695,2.65 -19.945,2.65 ; -18.155,-2.65 -17.405,-2.65 ; -18.155,2.65 -17.405,2.65 ; -15.615,-2.65 -14.865,-2.65 ; -15.615,2.65 -14.865,2.65 ; -13.075,-2.65 -12.325,-2.65 ; -13.075,2.65 -12.325,2.65 ; -10.535,-2.65 -9.785,-2.65 ; -10.535,2.65 -9.785,2.65 ; -7.995,-2.65 -7.245,-2.65 ; -7.995,2.65 -7.245,2.65 ; -5.455,-2.65 -4.705,-2.65 ; -5.455,2.65 -4.705,2.65 ; -2.915,-2.65 -2.165,-2.65 ; -2.915,2.65 -2.165,2.65 ; -0.375,-2.65 0.375,-2.65 ; -0.375,2.65 0.375,2.65 ; 2.165,-2.65 2.915,-2.65 ; 2.165,2.65 2.915,2.65 ; 4.705,-2.65 5.455,-2.65 ; 4.705,2.65 5.455,2.65 ; 7.245,-2.65 7.995,-2.65 ; 7.245,2.65 7.995,2.65 ; 9.785,-2.65 10.535,-2.65 ; 9.785,2.65 10.535,2.65 ; 12.325,-2.65 13.075,-2.65 ; 12.325,2.65 13.075,2.65 ; 14.865,-2.65 15.615,-2.65 ; 14.865,2.65 15.615,2.65 ; 17.405,-2.65 18.155,-2.65 ; 17.405,2.65 18.155,2.65 ; 19.945,-2.65 20.695,-2.65 ; 19.945,2.65 20.695,2.65 ; 22.485,-2.65 23.235,-2.65 ; 22.485,2.65 23.235,2.65 ; 25.025,-2.65 25.775,-2.65 ; 25.025,2.65 25.775,2.65 ; 27.565,-2.65 28.315,-2.65 ; 27.565,2.65 28.315,2.65 ; 30.105,-2.65 30.855,-2.65 ; 30.105,2.65 30.855,2.65 ; 32.645,-2.65 33.395,-2.65 ; 32.645,2.65 33.395,2.65 ; 35.185,-2.65 35.67,-2.65 35.67,2.65 35.185,2.65
Top Assembly:
  lines w0.254: -34.79,2.54 -34.29,1.833 -33.79,2.54 ; -35.56,-2.54 35.56,-2.54 35.56,2.54 -35.56,2.54 -35.56,-2.54
  text "'.Designator'" at -4.047,-2.68 h1
Top Courtyard:
  lines w0.254: -36.06,-4.17 36.06,-4.17 36.06,4.17 -36.06,4.17 -36.06,-4.17
Top Designator:
  text ".Designator" at -7.618,-0.508 h1.52